# Altium schematic symbol library PMEG3050EP,115.SchLib: 1 symbol
Pins are listed as number, name and electrical type; pins without a type are passive.

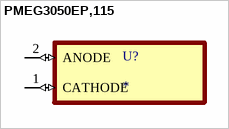
[diagram p0: symbol PMEG3050EP,115]

## PMEG3050EP,115
designator U?
MP: PMEG3050EP,115; MF: {'manufacturer': u'Nexperia USA'}; Price: None; Availability: Unavailable; Package: None; Value: *
footprint DIO_PMEG6030EVPX
pins: 1 CATHODE (io), 2 ANODE (io)